# Altium footprint library Resistors.PcbLib: 79 footprints (part 1 of 5)
Each footprint in its own frame and in the unit in brackets; x right, y up, seen from the top. Pads: shape width x height; smd on the part's side, far side on the other; paste and mask are expansions set on the pad; w line width, h text height; cw(c..) or ccw(c..) is an arc to the next point about the centre after c.
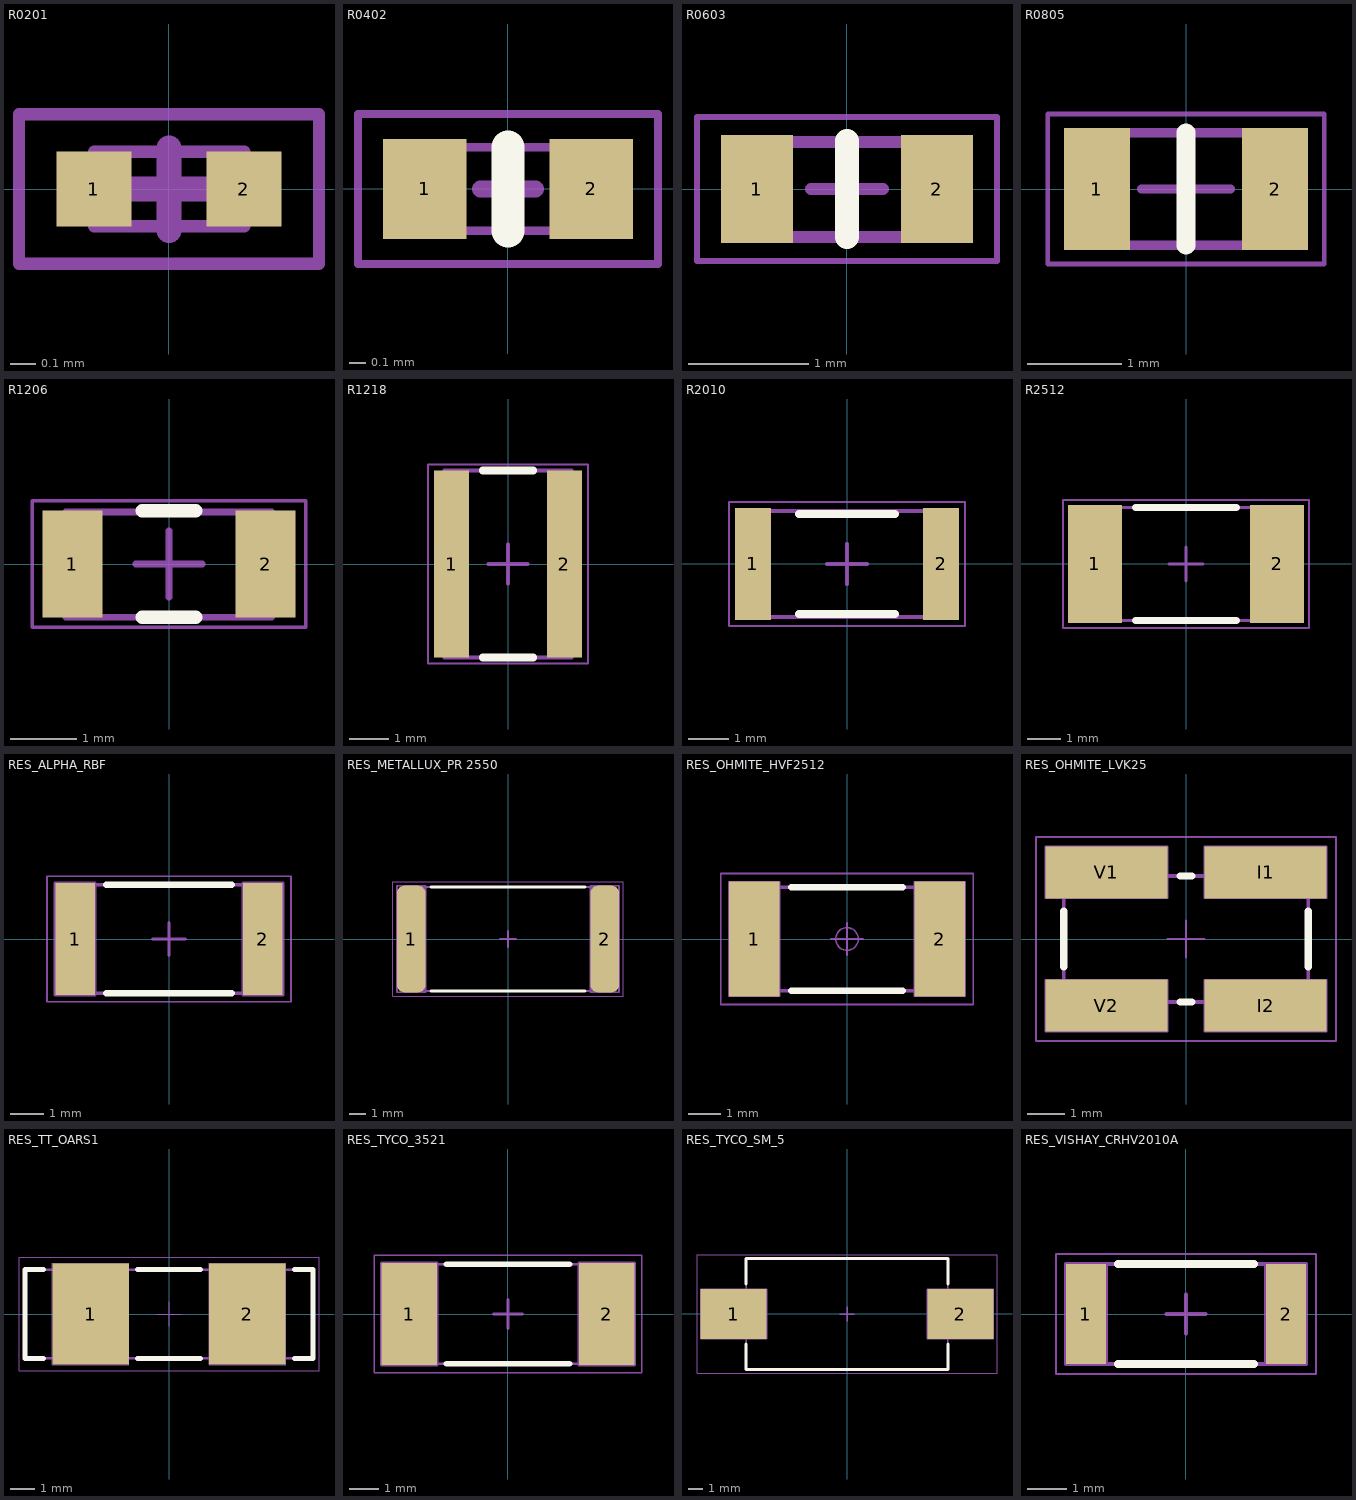
[diagram p0: the footprints below, top view; thin cyan lines are the x and y axes]

## R0201 [mm]
height 0.25
pads (2):
  rect 0.3x0.3 smd: 1(-0.3,0) 2(0.3,0)
3D Top:
  lines w0.05: -0.3,-0.15 -0.3,0.15 0.3,0.15 0.3,-0.15 -0.3,-0.15
  text ".Designator" at -0.25,-0.1 h0.3
Courtyard Top:
  lines w0.05: -0.6,-0.3 -0.6,0.3 0.6,0.3 0.6,-0.3 -0.6,-0.3
  lines w0.1: -0.165,0 0.165,0 ; 0,-0.165 0,0.165
3D body "RESC0603X25N.step": height 0.25, standoff 0, extent -0.3,-0.15 0.3,0.15

## R0402 [mm]
height 0.35
pads (2):
  rect 0.5x0.6 smd paste+0 mask+0.025: 1(-0.5,0) 2(0.5,0)
Top Overlay:
  lines w0.2: 0,-0.25 0,0.25
3D Top:
  lines w0.05: -0.5,-0.25 -0.5,0.25 0.5,0.25 0.5,-0.25 -0.5,-0.25
  text ".Designator" at -0.44,-0.15 h0.5
Courtyard Top:
  lines w0.05: -0.9,-0.45 -0.9,0.45 0.9,0.45 0.9,-0.45 -0.9,-0.45
  lines w0.1: -0.165,0 0.165,0 ; 0,-0.165 0,0.165
3D body "User Library-RESC1005X___.step": height 0.35, standoff 0, extent -0.5,-0.25 0.5,0.25

## R0603 [mm]
height 0.45
pads (2):
  rect 0.6x0.9 smd paste+0 mask+0.035: 1(-0.75,0) 2(0.75,0)
Top Overlay:
  lines w0.2: 0,-0.4 0,0.4
3D Top:
  lines w0.1: -0.8,-0.4 0.8,-0.4 0.8,0.39 -0.8,0.39 -0.8,-0.4
  text ".Designator" at -0.68,-0.28 h0.9
Courtyard Top:
  lines w0.05: -1.25,-0.6 -1.25,0.6 1.25,0.6 1.25,-0.6 -1.25,-0.6
  lines w0.1: -0.3,0 0.3,0 ; 0,-0.3 0,0.3
3D body "User Library-RESC1608X___.step": height 0.45, standoff 0, extent -0.8,-0.4 0.8,0.4

## R0805 [mm]
height 0.45
pads (2):
  rect 0.7x1.3 smd paste-0.02 mask+0.05: 1(-0.95,0) 2(0.95,0)
Top Overlay:
  lines w0.2: 0,-0.6 0,0.6
3D Top:
  lines w0.1: 1,0.6 1,-0.6 -1,-0.6 -1,0.6 1,0.6
  text ".Designator" at -0.86,-0.37 h1.2
Courtyard Top:
  lines w0.05: -1.475,-0.8 -1.475,0.8 1.475,0.8 1.475,-0.8 -1.475,-0.8
  lines w0.1: -0.475,0 0.475,0 ; 0,-0.475 0,0.475
3D body "User Library-RESC2012X___.step": height 0.45, standoff 0, extent -1,-0.6 1,0.6

## R1206 [mm]
height 0.55
pads (2):
  rect 0.9x1.6 smd paste-0.02 mask+0.075: 1(-1.45,0) 2(1.45,0)
Top Overlay:
  lines w0.2: -0.4,-0.8 0.4,-0.8 ; -0.4,0.8 0.4,0.8
3D Top:
  lines w0.1: -1.55,-0.8 1.54,-0.8 1.54,0.78 -1.55,0.78 -1.55,-0.8
  text ".Designator" at -1.4,-0.53 h1.7
Courtyard Top:
  lines w0.05: -2.05,-0.95 2.05,-0.95 2.05,0.95 -2.05,0.95 -2.05,-0.95
  lines w0.1: -0.5,0 0.5,0 ; 0,-0.5 0,0.5
3D body "User Library-RESC3216X___.step": height 0.55, standoff 0, extent -1.55,-0.8 1.55,0.8

## R1218 [mm]
height 0.55
pads (2):
  rect 0.9x4.8 smd paste-10 mask+0.075: 1(-1.45,0) 2(1.45,0)
Top Overlay:
  lines w0.2: -0.65,-2.4 0.65,-2.4 ; -0.65,2.4 0.65,2.4
3D Top:
  lines w0.1: -1.625,-2.4 1.625,-2.4 1.625,2.4 -1.625,2.4 -1.625,-2.4
  text ".Designator" at 0.51,-2.24 h2
Courtyard Top:
  lines w0.05: -2.05,-2.55 -2.05,2.55 2.05,2.55 2.05,-2.55 -2.05,-2.55
  lines w0.1: -0.5,0 0.5,0 ; 0,-0.5 0,0.5
3D body "User Library-1218R.step": height 0.6, standoff -0.05, extent -1.625,-2.4 1.625,2.4

## R2010 [mm]
height 0.6
pads (2):
  rect 0.9x2.8 smd: 1(-2.35,0) 2(2.35,0)
Top Overlay:
  lines w0.2: -1.2,-1.25 1.2,-1.25 ; -1.2,1.25 1.2,1.25
3D Top:
  lines w0.1: -2.575,-1.325 -2.575,1.325 2.575,1.325 2.575,-1.325 -2.575,-1.325
  text ".Designator" at -2.35,-0.55 h2
Courtyard Top:
  lines w0.05: -2.95,-1.55 2.95,-1.55 2.95,1.55 -2.95,1.55 -2.95,-1.55
  lines w0.1: -0.5,0 0.5,0 ; 0,-0.5 0,0.5
3D body: height 0.71, standoff 0, extent -2.575,-1.325 2.575,1.325

## R2512 [mm]
height 0.6
pads (2):
  rect 1.6x3.5 smd: 1(-2.7,0) 2(2.7,0)
Top Overlay:
  lines w0.2: -1.5,-1.675 1.5,-1.675 ; -1.5,1.675 1.5,1.675
3D Top:
  lines w0.1: -3.225,-1.675 3.225,-1.675 3.225,1.675 -3.225,1.675 -3.225,-1.675
  text ".Designator" at -2.71,-0.55 h2
Courtyard Top:
  lines w0.05: -3.65,-1.9 3.65,-1.9 3.65,1.9 -3.65,1.9 -3.65,-1.9
  lines w0.1: -0.5,0 0.5,0 ; 0,-0.5 0,0.5
3D body: height 0.71, standoff 0, extent -3.225,-1.675 3.225,1.675

## RES_ALPHA_RBF [mm] "Chip Resistor, EIA 2512, Metric 6332, 2-Leads, Body 6.3mm L X 3.20mm W X 1.05mm H, ALPHA ELECTRONICS RBF Series"
height 1.05
pads (2):
  rect 1.2x3.4 smd: 1(-2.85,0) 2(2.85,0)
Top Overlay:
  lines w0.2: -1.9,-1.65 1.9,-1.65 ; -1.9,1.65 1.9,1.65
Assembly Top:
  lines w0.1: -3.35,0 -2.85,0 ; -2.85,-0.5 -2.85,0 ; -2.85,0.5 -2.85,0 ; -2.35,0 -2.85,0 ; -0.5,0 0,0 ; 0,-0.5 0,0 ; 0,0.5 0,0 ; 0.5,0 0,0 ; 2.35,0 2.85,0 ; 2.85,-0.5 2.85,0 ; 2.85,0.5 2.85,0 ; 3.35,0 2.85,0 ; -3.45,-1.7 -2.25,-1.7 -2.25,1.7 -3.45,1.7 -3.45,-1.7 ; 2.25,-1.7 3.45,-1.7 3.45,1.7 2.25,1.7 2.25,-1.7
3D Bottom:
  lines w0.1: -3.2,-1.65 -3.2,1.65 3.2,1.65 3.2,-1.65 -3.2,-1.65
Courtyard Top:
  lines w0.05: -3.7,-1.9 -3.7,1.9 3.7,1.9 3.7,-1.9 -3.7,-1.9
3D body "RES_ALPHA_RBF.stp": height 1.05, standoff 0, extent -3.2,-1.65 3.2,1.65

## RES_METALLUX_PR 2550 [mm] "High Voltage Resistor SMD Resistor, 2-Leads, Body 12.7 x 6.35 mm, IPC Medium Density"
height 1.52
pads (2):
  rrect50% 1.75x6.5 smd: 1(-5.9,0) 2(5.9,0)
Top Overlay:
  lines w0.2: -4.68,-3.175 4.68,-3.175 ; -4.68,3.175 4.68,3.175
Assembly Top:
  lines w0.1: -6.4,0 -5.9,0 ; -5.9,-0.5 -5.9,0 ; -5.9,0.5 -5.9,0 ; -5.4,0 -5.9,0 ; -0.5,0 0,0 ; 0,-0.5 0,0 ; 0,0.5 0,0 ; 0.5,0 0,0 ; 5.4,0 5.9,0 ; 5.9,-0.5 5.9,0 ; 5.9,0.5 5.9,0 ; 6.4,0 5.9,0 ; -6.775,-3.25 -6.775,3.25 -5.025,3.25 -5.025,-3.25 -6.775,-3.25 ; 5.025,-3.25 5.025,3.25 6.775,3.25 6.775,-3.25 5.025,-3.25
3D Bottom:
  lines w0.1: -6.35,-3.175 -6.35,3.175 ; -6.35,-3.175 6.35,-3.175 ; -6.35,-3.175 -5.08,-3.175 -5.08,3.175 -6.35,3.175 ; -6.35,-3.175 -6.35,3.175 ; -6.35,3.175 6.35,3.175 ; 6.35,-3.175 6.35,3.175 ; 6.35,-3.175 6.35,3.175 ; 6.35,-3.175 5.08,-3.175 5.08,3.175 6.35,3.175
Courtyard Top:
  lines w0.05: -7.025,-3.5 7.025,-3.5 7.025,3.5 -7.025,3.5 -7.025,-3.5
3D body "RES_METALLUX_PR 2550.stp": height 1.52, standoff 0, extent -6.35,-3.175 6.35,3.175

## RES_OHMITE_HVF2512 [mm] "Resistor, Chip; 6.4mm L X 3.2mm W X 0.81mm H, IPC Medium Density"
height 0.81
pads (2):
  rect 1.57x3.55 smd: 1(-2.87,0) 2(2.87,0)
Top Overlay:
  lines w0.2: -1.733,-1.6 1.733,-1.6 ; -1.733,1.6 1.733,1.6
Assembly Top:
  lines w0.05: -3.37,0 -2.87,0 ; -2.87,-0.5 -2.87,0 ; -2.87,0.5 -2.87,0 ; -2.37,0 -2.87,0 ; -0.5,0 0,0 ; 0,-0.5 0,0 ; 0,0.5 0,0 ; 0.5,0 0,0 ; 2.37,0 2.87,0 ; 2.87,-0.5 2.87,0 ; 2.87,0.5 2.87,0 ; 3.37,0 2.87,0 ; -3.658,-1.778 -3.658,1.778 -2.083,1.778 -2.083,-1.778 -3.658,-1.778 ; 2.083,-1.778 3.658,-1.778 3.658,1.778 2.083,1.778 2.083,-1.778
3D Bottom:
  lines w0.1: -3.2,-1.6 -3.2,1.6 3.2,1.6 3.2,-1.6 -3.2,-1.6
Courtyard Top:
  circle w0.05: c0,0 r0.35
  lines w0.05: -0.5,0 0.5,0 ; 0,-0.5 0,0.5 ; -3.908,-2.028 -3.908,2.028 3.908,2.028 3.908,-2.028 -3.908,-2.028
3D body "RES_OHMITE_HVF2512.stp": height 0.81, standoff 0, extent -3.2,-1.6 3.2,1.6

## RES_OHMITE_LVK25 [mm] "Resistor Four Terminal High Precision Current Sense, Chip; 3.2mm L X 6.4mm W X 0.7mm H"
height 0.7
pads (4):
  rect 3.3x1.4 smd: I1(2.15,1.8) I2(2.15,-1.8) V1(-2.15,1.8) V2(-2.15,-1.8)
Top Overlay:
  lines w0.2: -3.3,-0.75 -3.3,0.75 ; -0.15,-1.7 0.15,-1.7 ; -0.15,1.7 0.15,1.7 ; 3.3,-0.75 3.3,0.75
Assembly Top:
  lines w0.05: -2.65,-1.8 -2.15,-1.8 ; -2.65,1.8 -2.15,1.8 ; -2.15,-2.3 -2.15,-1.8 ; -2.15,-1.3 -2.15,-1.8 ; -2.15,1.3 -2.15,1.8 ; -2.15,2.3 -2.15,1.8 ; -1.65,-1.8 -2.15,-1.8 ; -1.65,1.8 -2.15,1.8 ; 0,-0.5 0,0 ; 0,0.5 0,0 ; 0.5,0 0,0 ; 1.65,-1.8 2.15,-1.8 ; 1.65,1.8 2.15,1.8 ; 2.15,-2.3 2.15,-1.8 ; 2.15,-1.3 2.15,-1.8 ; 2.15,1.3 2.15,1.8 ; 2.15,2.3 2.15,1.8 ; 2.65,-1.8 2.15,-1.8 ; 2.65,1.8 2.15,1.8 ; 0,0 -0.5,0 0,0 ; -3.8,-2.5 -0.5,-2.5 -0.5,-1.1 -3.8,-1.1 -3.8,-2.5 ; -3.8,1.1 -3.8,2.5 -0.5,2.5 -0.5,1.1 -3.8,1.1 ; 0.5,-2.5 3.8,-2.5 3.8,-1.1 0.5,-1.1 0.5,-2.5 ; 0.5,1.1 3.8,1.1 3.8,2.5 0.5,2.5 0.5,1.1
3D Bottom:
  lines w0.1: -3.3,-1.7 3.3,-1.7 3.3,1.7 -3.3,1.7 -3.3,-1.7
Courtyard Top:
  lines w0.05: -4.05,-2.75 4.05,-2.75 4.05,2.75 -4.05,2.75 -4.05,-2.75
3D body "RES_OHMITE_LVK25.stp": height 0.7, standoff 0, extent -3.2,-1.6 3.2,1.6

## RES_TT_OARS1 [mm] "CSurface Mount Sense Resistors"
height 3.81
pads (2):
  rect 3.07x4.07 smd: 1(-3.15,0) 2(3.15,0)
Top Overlay:
  lines w0.2: -5.035,-1.78 -5.78,-1.78 -5.78,1.78 -5.035,1.78 ; -1.265,-1.78 1.265,-1.78 ; -1.265,1.78 1.265,1.78 ; 5.035,-1.78 5.78,-1.78 5.78,1.78 5.035,1.78
Assembly Top:
  lines w0.05: -3.65,0 -3.15,0 ; -3.15,-0.5 -3.15,0 ; -3.15,0.5 -3.15,0 ; -2.65,0 -3.15,0 ; -0.5,0 0,0 ; 0,-0.5 0,0 ; 0,0.5 0,0 ; 0.5,0 0,0 ; 2.65,0 3.15,0 ; 3.15,-0.5 3.15,0 ; 3.15,0.5 3.15,0 ; 3.65,0 3.15,0 ; -4.685,-2.035 -4.685,2.035 -1.615,2.035 -1.615,-2.035 -4.685,-2.035 ; 1.615,-2.035 1.615,2.035 4.685,2.035 4.685,-2.035 1.615,-2.035
3D Bottom:
  lines w0.1: -5.78,-1.78 -5.78,1.78 5.78,1.78 5.78,-1.78 -5.78,-1.78
Courtyard Top:
  lines w0.05: -6.03,-2.285 6.03,-2.285 6.03,2.285 -6.03,2.285 -6.03,-2.285
3D body "RES_TT_OARS1.stp": height 3.81, standoff 0, extent -5.78,-1.78 5.78,1.78

## RES_TYCO_3521 [mm] "Chip Resistor, EIA 2512, Metric 6332, 2-Leads, Body 6.3x3.2mm, 3521 Serie"
height 0.65
pads (2):
  rect 1.9x3.5 smd: 1(-3.378,0) 2(3.378,0)
Top Overlay:
  lines w0.2: -2.1,-1.7 2.1,-1.7 ; -2.1,1.7 2.1,1.7
Assembly Top:
  lines w0.1: -3.878,0 -3.378,0 ; -3.378,-0.5 -3.378,0 ; -3.378,0.5 -3.378,0 ; -2.878,0 -3.378,0 ; -0.5,0 0,0 ; 0,-0.5 0,0 ; 0,0.5 0,0 ; 0.5,0 0,0 ; 2.878,0 3.378,0 ; 3.378,-0.5 3.378,0 ; 3.378,0.5 3.378,0 ; 3.878,0 3.378,0 ; -4.328,-1.75 -2.428,-1.75 -2.428,1.75 -4.328,1.75 -4.328,-1.75 ; 2.428,-1.75 4.328,-1.75 4.328,1.75 2.428,1.75 2.428,-1.75
3D Bottom:
  lines w0.1: -2.45,-1.7 -2.45,1.7 ; -2.1,-1.7 2.1,-1.7 ; 2.45,-1.7 2.45,1.7 ; -3.25,-1.7 3.25,-1.7 3.25,1.7 -3.25,1.7 -3.25,-1.7
Courtyard Top:
  lines w0.05: -4.578,-2 4.578,-2 4.578,2 -4.578,2 -4.578,-2
3D body "RES_TYCO_3521.stp": height 0.65, standoff 0, extent -3.25,-1.7 3.25,1.7

## RES_TYCO_SM_5 [mm] "Resistor, Molded Body; 17.00mm L X 7.30mm W X 7.10mm H, SM 5W Series"
height 7.1
pads (2):
  rect 4.5x3.4 smd: 1(-7.75,0) 2(7.75,0)
Top Overlay:
  lines w0.2: -6.9,-2.05 -6.9,-3.8 6.9,-3.8 6.9,-2.05 ; -6.9,2.05 -6.9,3.8 6.9,3.8 6.9,2.05
Assembly Top:
  lines w0.1: -8.25,0 -7.75,0 ; -7.75,-0.5 -7.75,0 ; -7.75,0.5 -7.75,0 ; -7.25,0 -7.75,0 ; -0.5,0 0,0 ; 0,-0.5 0,0 ; 0,0.5 0,0 ; 0.5,0 0,0 ; 7.25,0 7.75,0 ; 7.75,-0.5 7.75,0 ; 7.75,0.5 7.75,0 ; 8.25,0 7.75,0 ; -10,-1.7 -10,1.7 -5.5,1.7 -5.5,-1.7 -10,-1.7 ; 5.5,-1.7 5.5,1.7 10,1.7 10,-1.7 5.5,-1.7
3D Bottom:
  lines w0.1: -6.9,-3.8 -6.9,3.8 6.9,3.8 6.9,-3.8 -6.9,-3.8
Courtyard Top:
  lines w0.05: -10.25,-4.05 -10.25,4.05 10.25,4.05 10.25,-4.05 -10.25,-4.05
3D body "RES_TYCO_SM_5.stp": height 7.1, standoff 0, extent -8.5,-3.8 8.5,3.8

## RES_VISHAY_CRHV2010A [mm] "EIA 2010, Metric 5125, High Voltage Thick Film Chip Resistor, 5.08mm L X 2.54mm W X 0.69mm H"
height 0.69
pads (2):
  rect 1.02x2.54 smd: 1(-2.54,0) 2(2.54,0)
Top Overlay:
  lines w0.2: -1.73,-1.27 1.73,-1.27 ; -1.73,1.27 1.73,1.27
Assembly Top:
  lines w0.1: -3.04,0 -2.54,0 ; -2.54,-0.5 -2.54,0 ; -2.54,0.5 -2.54,0 ; -2.04,0 -2.54,0 ; -0.5,0 0,0 ; 0,-0.5 0,0 ; 0,0.5 0,0 ; 0.5,0 0,0 ; 2.04,0 2.54,0 ; 2.54,-0.5 2.54,0 ; 2.54,0.5 2.54,0 ; 3.04,0 2.54,0 ; -3.05,-1.27 -3.05,1.27 -2.03,1.27 -2.03,-1.27 -3.05,-1.27 ; 2.03,-1.27 2.03,1.27 3.05,1.27 3.05,-1.27 2.03,-1.27
3D Bottom:
  lines w0.1: -2.057,-1.27 -2.057,1.27 ; 2.057,-1.27 2.057,1.27 ; -2.54,-1.27 -2.54,1.27 2.54,1.27 2.54,-1.27 -2.54,-1.27
Courtyard Top:
  lines w0.05: -3.3,-1.52 -3.3,1.52 3.3,1.52 3.3,-1.52 -3.3,-1.52
3D body "RES_VISHAY_CRHV2010A.stp": height 0.69, standoff 0, extent -2.54,-1.27 2.54,1.27